# Altium schematic symbol library CPU.SchLib: 6 symbols
Pins are listed as number, name and electrical type; pins without a type are passive.

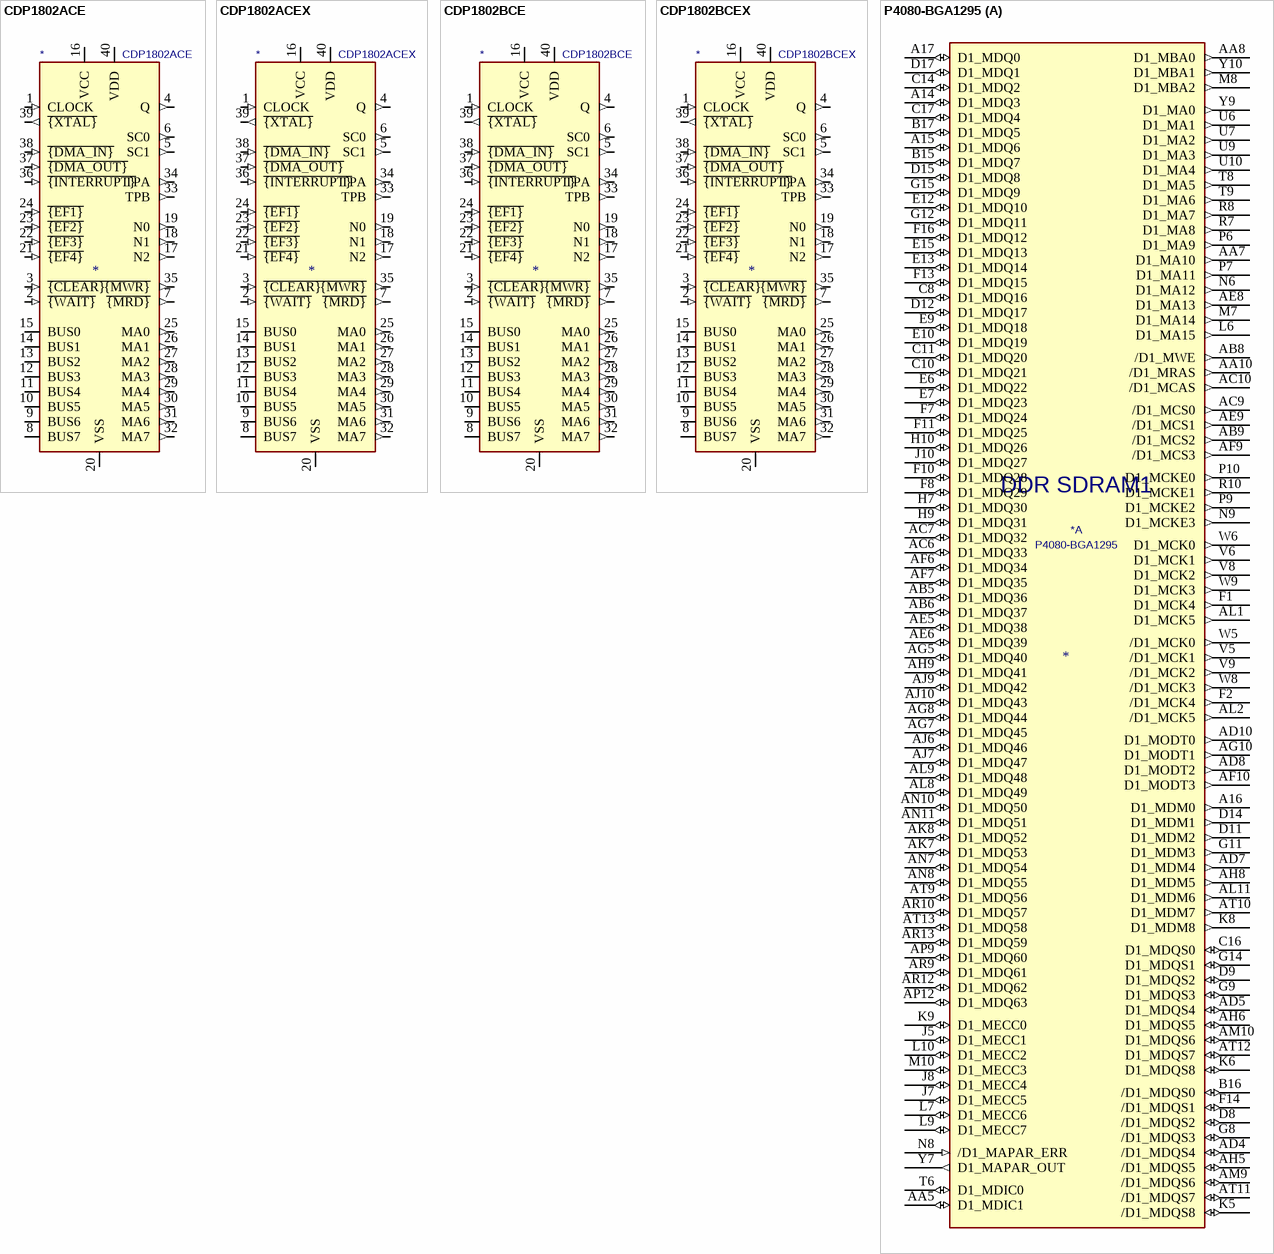
[diagram p0: symbols CDP1802ACE to P4080-BGA1295]

## CDP1802ACE
designator *  value CDP1802ACE
ki_keywords: CPU Processor; ki_description: 8-bit, General Purpose, 5V, 3.2 MHz, DIP-40; ki_fp_filters: DIP*W15.24mm*; Footprint: Package_DIP:DIP-40_W15.24mm; Supplier: http://www.cosmacelf.com/publications/data-sheets/cdp1802.pdf
footprint DIP-40_W15.24mm
pins: 1 CLOCK (in), 2 ~{{WAIT}} (in), 3 ~{{CLEAR}} (in), 4 Q (out), 5 SC1 (out), 6 SC0 (out), 7 ~{{MRD}} (out), 8 BUS7 (io), 9 BUS6 (io), 10 BUS5 (io), 11 BUS4 (io), 12 BUS3 (io), 13 BUS2 (io), 14 BUS1 (io), 15 BUS0 (io), 16 VCC (power), 17 N2 (out), 18 N1 (out), 19 N0 (out), 20 VSS (power), 21 ~{{EF4}} (in), 22 ~{{EF3}} (in), 23 ~{{EF2}} (in), 24 ~{{EF1}} (in), 25 MA0 (out), 26 MA1 (out), 27 MA2 (out), 28 MA3 (out), 29 MA4 (out), 30 MA5 (out), 31 MA6 (out), 32 MA7 (out), 33 TPB (out), 34 TPA (out), 35 ~{{MWR}} (out), 36 ~{{INTERRUPT}} (in), 37 ~{{DMA_OUT}} (in), 38 ~{{DMA_IN}} (in), 39 ~{{XTAL}} (out), 40 VDD (power)

## CDP1802ACEX
designator *  value CDP1802ACEX
ki_keywords: CPU Processor; ki_description: 8-bit, General Purpose, 5V, 3.2 MHz, Burned-In, DIP-40; ki_fp_filters: DIP*W15.24mm*; Footprint: Package_DIP:DIP-40_W15.24mm; Supplier: http://www.cosmacelf.com/publications/data-sheets/cdp1802.pdf
footprint DIP-40_W15.24mm
pins: 1 CLOCK (in), 2 ~{{WAIT}} (in), 3 ~{{CLEAR}} (in), 4 Q (out), 5 SC1 (out), 6 SC0 (out), 7 ~{{MRD}} (out), 8 BUS7 (io), 9 BUS6 (io), 10 BUS5 (io), 11 BUS4 (io), 12 BUS3 (io), 13 BUS2 (io), 14 BUS1 (io), 15 BUS0 (io), 16 VCC (power), 17 N2 (out), 18 N1 (out), 19 N0 (out), 20 VSS (power), 21 ~{{EF4}} (in), 22 ~{{EF3}} (in), 23 ~{{EF2}} (in), 24 ~{{EF1}} (in), 25 MA0 (out), 26 MA1 (out), 27 MA2 (out), 28 MA3 (out), 29 MA4 (out), 30 MA5 (out), 31 MA6 (out), 32 MA7 (out), 33 TPB (out), 34 TPA (out), 35 ~{{MWR}} (out), 36 ~{{INTERRUPT}} (in), 37 ~{{DMA_OUT}} (in), 38 ~{{DMA_IN}} (in), 39 ~{{XTAL}} (out), 40 VDD (power)

## CDP1802BCE
designator *  value CDP1802BCE
ki_keywords: CPU Processor; ki_description: 8-bit, General Purpose, 5V, 5 MHz, DIP-40; ki_fp_filters: DIP*W15.24mm*; Footprint: Package_DIP:DIP-40_W15.24mm; Supplier: http://www.cosmacelf.com/publications/data-sheets/cdp1802.pdf
footprint DIP-40_W15.24mm
pins: 1 CLOCK (in), 2 ~{{WAIT}} (in), 3 ~{{CLEAR}} (in), 4 Q (out), 5 SC1 (out), 6 SC0 (out), 7 ~{{MRD}} (out), 8 BUS7 (io), 9 BUS6 (io), 10 BUS5 (io), 11 BUS4 (io), 12 BUS3 (io), 13 BUS2 (io), 14 BUS1 (io), 15 BUS0 (io), 16 VCC (power), 17 N2 (out), 18 N1 (out), 19 N0 (out), 20 VSS (power), 21 ~{{EF4}} (in), 22 ~{{EF3}} (in), 23 ~{{EF2}} (in), 24 ~{{EF1}} (in), 25 MA0 (out), 26 MA1 (out), 27 MA2 (out), 28 MA3 (out), 29 MA4 (out), 30 MA5 (out), 31 MA6 (out), 32 MA7 (out), 33 TPB (out), 34 TPA (out), 35 ~{{MWR}} (out), 36 ~{{INTERRUPT}} (in), 37 ~{{DMA_OUT}} (in), 38 ~{{DMA_IN}} (in), 39 ~{{XTAL}} (out), 40 VDD (power)

## CDP1802BCEX
designator *  value CDP1802BCEX
ki_keywords: CPU Processor; ki_description: 8-bit, General Purpose, 5V, 5 MHz, Burned-In, DIP-40; ki_fp_filters: DIP*W15.24mm*; Footprint: Package_DIP:DIP-40_W15.24mm; Supplier: http://www.cosmacelf.com/publications/data-sheets/cdp1802.pdf
footprint DIP-40_W15.24mm
pins: 1 CLOCK (in), 2 ~{{WAIT}} (in), 3 ~{{CLEAR}} (in), 4 Q (out), 5 SC1 (out), 6 SC0 (out), 7 ~{{MRD}} (out), 8 BUS7 (io), 9 BUS6 (io), 10 BUS5 (io), 11 BUS4 (io), 12 BUS3 (io), 13 BUS2 (io), 14 BUS1 (io), 15 BUS0 (io), 16 VCC (power), 17 N2 (out), 18 N1 (out), 19 N0 (out), 20 VSS (power), 21 ~{{EF4}} (in), 22 ~{{EF3}} (in), 23 ~{{EF2}} (in), 24 ~{{EF1}} (in), 25 MA0 (out), 26 MA1 (out), 27 MA2 (out), 28 MA3 (out), 29 MA4 (out), 30 MA5 (out), 31 MA6 (out), 32 MA7 (out), 33 TPB (out), 34 TPA (out), 35 ~{{MWR}} (out), 36 ~{{INTERRUPT}} (in), 37 ~{{DMA_OUT}} (in), 38 ~{{DMA_IN}} (in), 39 ~{{XTAL}} (out), 40 VDD (power)

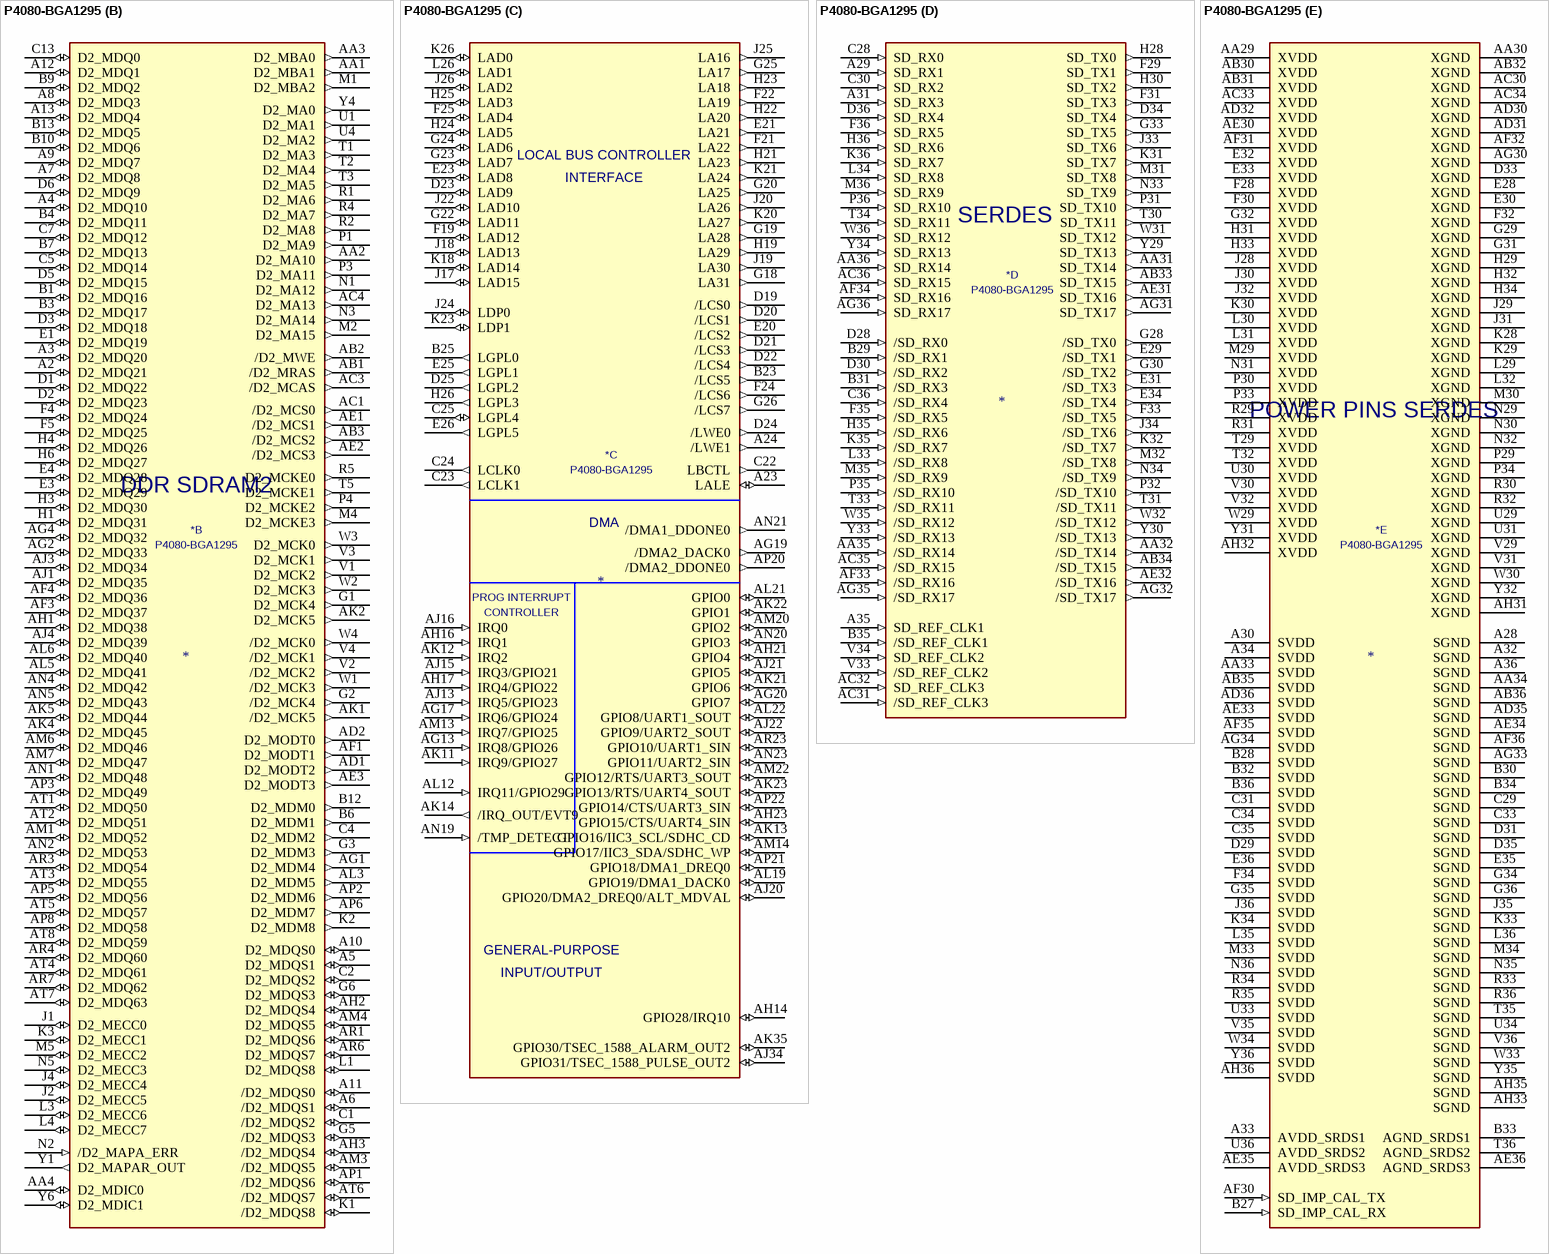
[diagram p1: symbol P4080-BGA1295]

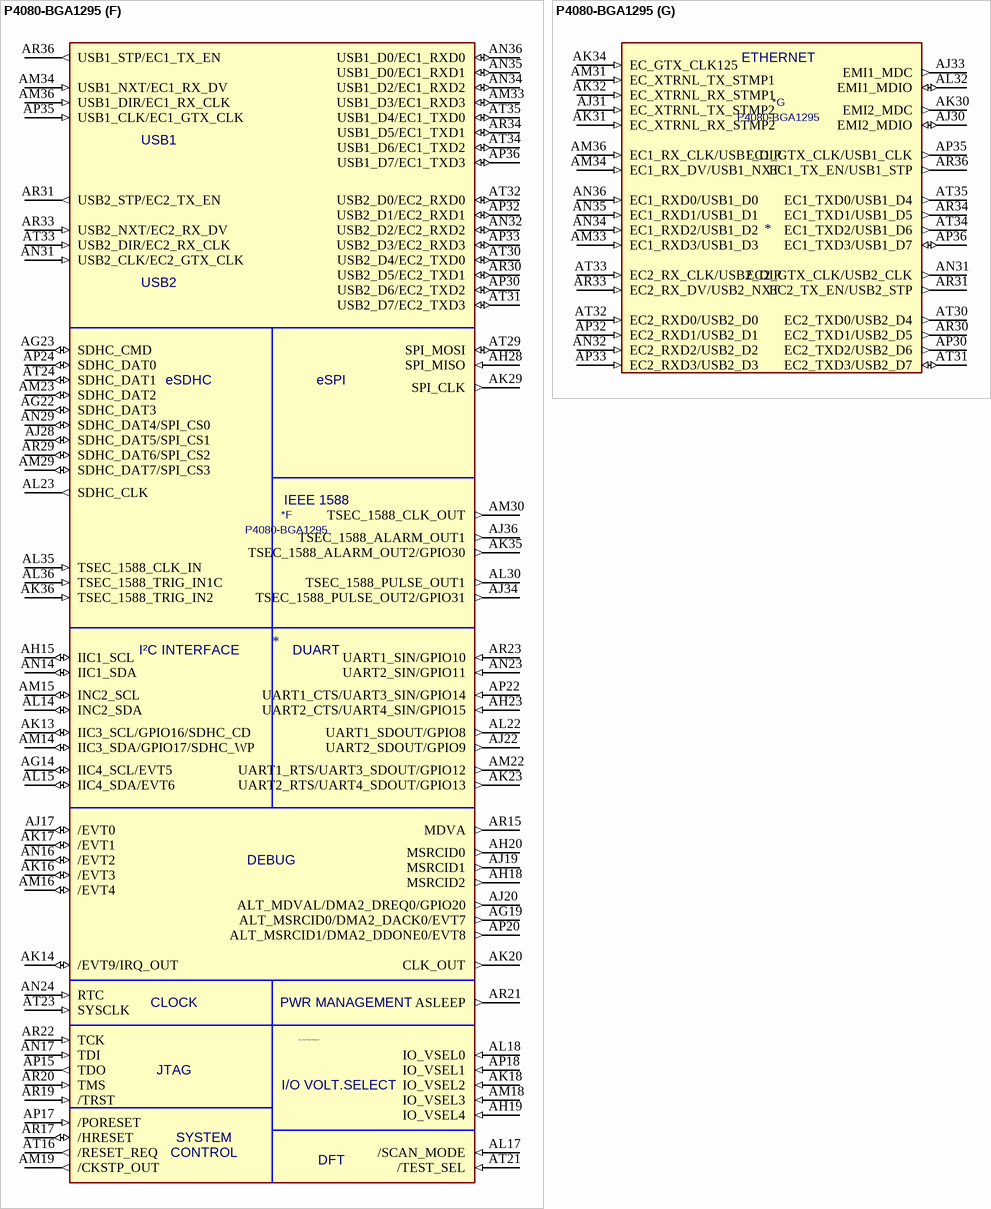
[diagram p2: symbol P4080-BGA1295]

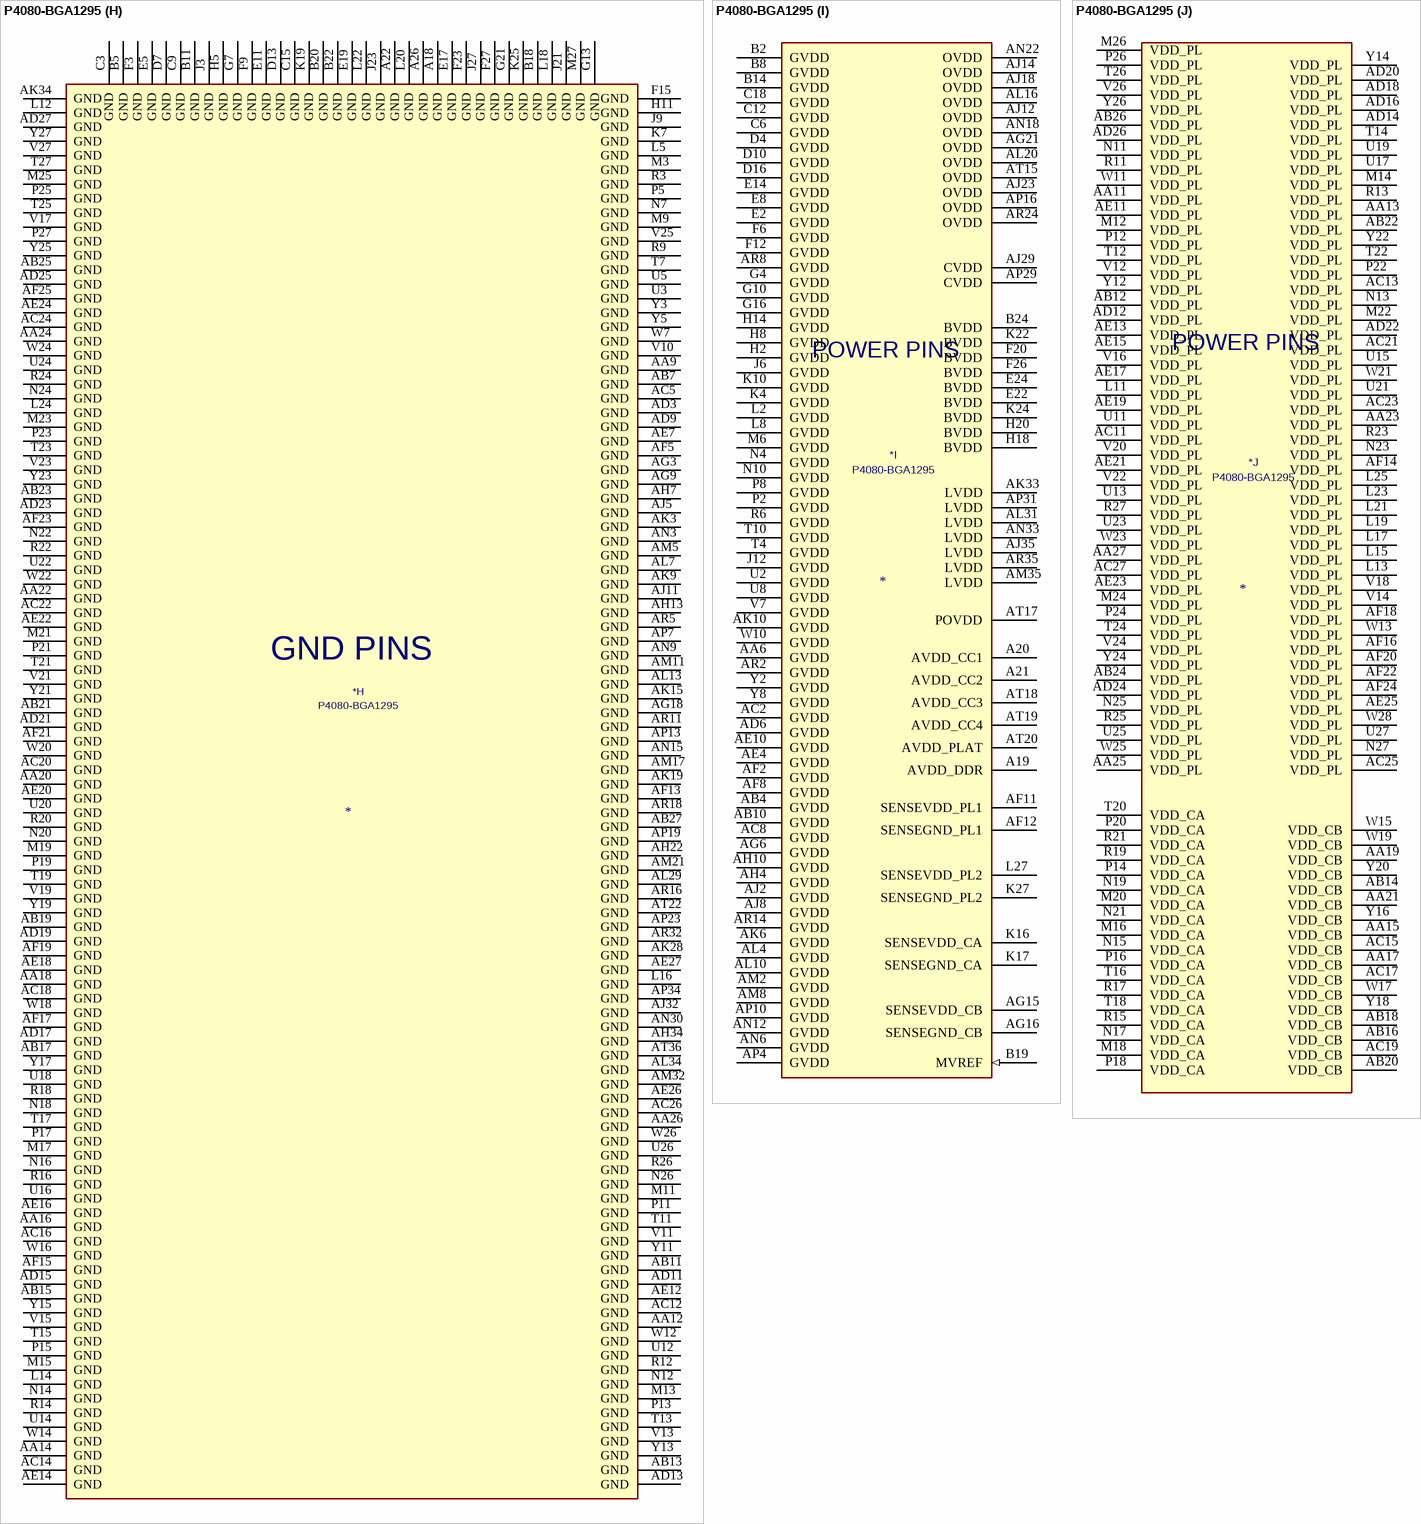
[diagram p3: symbol P4080-BGA1295]

## P4080-BGA1295
designator *  value P4080-BGA1295
ki_keywords: Communications Processor; ki_description: QorIQ P4080 Communications Processor, BGA-1295; Supplier: https://www.nxp.com/jp/products/microcontrollers-and-processors/power-architecture-processors/qoriq-platforms/p-series/qoriq-p4080-p4040-p4081-multicore-communications-processors:P4080?&tab=Documentation_Tab&linkline=Data-Sheet
part A pins: A14 D1_MDQ3 (io), A15 D1_MDQ6 (io), A16 D1_MDM0 (out), A17 D1_MDQ0 (io), AA5 D1_MDIC1 (io), AA7 D1_MA10 (out), AA8 D1_MBA0 (out), AA10 /D1_MRAS (out), AB5 D1_MDQ36 (io), AB6 D1_MDQ37 (io), AB8 /D1_MWE (out), AB9 /D1_MCS2 (out), AC6 D1_MDQ33 (io), AC7 D1_MDQ32 (io), AC9 /D1_MCS0 (out), AC10 /D1_MCAS (out), AD4 /D1_MDQS4 (io), AD5 D1_MDQS4 (io), AD7 D1_MDM4 (out), AD8 D1_MODT2 (out), AD10 D1_MODT0 (out), AE5 D1_MDQ38 (io), AE6 D1_MDQ39 (io), AE8 D1_MA13 (out), AE9 /D1_MCS1 (out), AF6 D1_MDQ34 (io), AF7 D1_MDQ35 (io), AF9 /D1_MCS3 (out), AF10 D1_MODT3 (out), AG5 D1_MDQ40 (io), AG7 D1_MDQ45 (io), AG8 D1_MDQ44 (io), AG10 D1_MODT1 (out), AH5 /D1_MDQS5 (io), AH6 D1_MDQS5 (io), AH8 D1_MDM5 (out), AH9 D1_MDQ41 (io), AJ6 D1_MDQ46 (io), AJ7 D1_MDQ47 (io), AJ9 D1_MDQ42 (io), AJ10 D1_MDQ43 (io), AK7 D1_MDQ53 (io), AK8 D1_MDQ52 (io), AL1 D1_MCK5 (out), AL2 /D1_MCK5 (out), AL8 D1_MDQ49 (io), AL9 D1_MDQ48 (io), AL11 D1_MDM6 (out), AM9 /D1_MDQS6 (io), AM10 D1_MDQS6 (io), AN7 D1_MDQ54 (io), AN8 D1_MDQ55 (io), AN10 D1_MDQ50 (io), AN11 D1_MDQ51 (io), AP9 D1_MDQ60 (io), AP12 D1_MDQ63 (io), AR9 D1_MDQ61 (io), AR10 D1_MDQ57 (io), AR12 D1_MDQ62 (io), AR13 D1_MDQ59 (io), AT9 D1_MDQ56 (io), AT10 D1_MDM7 (out), AT11 /D1_MDQS7 (io), AT12 D1_MDQS7 (io), AT13 D1_MDQ58 (io), B15 D1_MDQ7 (io), B16 /D1_MDQS0 (io), B17 D1_MDQ5 (io), C8 D1_MDQ16 (io), C10 D1_MDQ21 (io), C11 D1_MDQ20 (io), C14 D1_MDQ2 (io), C16 D1_MDQS0 (io), C17 D1_MDQ4 (io), D8 /D1_MDQS2 (io), D9 D1_MDQS2 (io), D11 D1_MDM2 (out), D12 D1_MDQ17 (io), D14 D1_MDM1 (out), D15 D1_MDQ8 (io), D17 D1_MDQ1 (io), E6 D1_MDQ22 (io), E7 D1_MDQ23 (io), E9 D1_MDQ18 (io), E10 D1_MDQ19 (io), E12 D1_MDQ10 (io), E13 D1_MDQ14 (io), E15 D1_MDQ13 (io), F1 D1_MCK4 (out), F2 /D1_MCK4 (out), F7 D1_MDQ24 (io), F8 D1_MDQ29 (io), F10 D1_MDQ28 (io), F11 D1_MDQ25 (io), F13 D1_MDQ15 (io), F14 /D1_MDQS1 (io), F16 D1_MDQ12 (io), G8 /D1_MDQS3 (io), G9 D1_MDQS3 (io), G11 D1_MDM3 (out), G12 D1_MDQ11 (io), G14 D1_MDQS1 (io), G15 D1_MDQ9 (io), H7 D1_MDQ30 (io), H9 D1_MDQ31 (io), H10 D1_MDQ26 (io), J5 D1_MECC1 (io), J7 D1_MECC5 (io), J8 D1_MECC4 (io), J10 D1_MDQ27 (io), K5 /D1_MDQS8 (io), K6 D1_MDQS8 (io), K8 D1_MDM8 (out), K9 D1_MECC0 (io), L6 D1_MA15 (out), L7 D1_MECC6 (io), L9 D1_MECC7 (io), L10 D1_MECC2 (io), M7 D1_MA14 (out), M8 D1_MBA2 (out), M10 D1_MECC3 (io), N6 D1_MA12 (out), N8 /D1_MAPAR_ERR (in), N9 D1_MCKE3 (out), P6 D1_MA9 (out), P7 D1_MA11 (out), P9 D1_MCKE2 (out), P10 D1_MCKE0 (out), R7 D1_MA8 (out), R8 D1_MA7 (out), R10 D1_MCKE1 (out), T6 D1_MDIC0 (io), T8 D1_MA5 (out), T9 D1_MA6 (out), U6 D1_MA1 (out), U7 D1_MA2 (out), U9 D1_MA3 (out), U10 D1_MA4 (out), V5 /D1_MCK1 (out), V6 D1_MCK1 (out), V8 D1_MCK2 (out), V9 /D1_MCK2 (out), W5 /D1_MCK0 (out), W6 D1_MCK0 (out), W8 /D1_MCK3 (out), W9 D1_MCK3 (out), Y7 D1_MAPAR_OUT (out), Y9 D1_MA0 (out), Y10 D1_MBA1 (out)
part B pins: A2 D2_MDQ21 (io), A3 D2_MDQ20 (io), A4 D2_MDQ10 (io), A5 D2_MDQS1 (io), A6 /D2_MDQS1 (io), A7 D2_MDQ8 (io), A8 D2_MDQ3 (io), A9 D2_MDQ7 (io), A10 D2_MDQS0 (io), A11 /D2_MDQS0 (io), A12 D2_MDQ1 (io), A13 D2_MDQ4 (io), AA1 D2_MBA1 (out), AA2 D2_MA10 (out), AA3 D2_MBA0 (out), AA4 D2_MDIC0 (io), AB1 /D2_MRAS (out), AB2 /D2_MWE (out), AB3 /D2_MCS2 (out), AC1 /D2_MCS0 (out), AC3 /D2_MCAS (out), AC4 D2_MA13 (out), AD1 D2_MODT2 (out), AD2 D2_MODT0 (out), AE1 /D2_MCS1 (out), AE2 /D2_MCS3 (out), AE3 D2_MODT3 (out), AF1 D2_MODT1 (out), AF3 D2_MDQ37 (io), AF4 D2_MDQ36 (io), AG1 D2_MDM4 (out), AG2 D2_MDQ33 (io), AG4 D2_MDQ32 (io), AH1 D2_MDQ38 (io), AH2 D2_MDQS4 (io), AH3 /D2_MDQS4 (io), AJ1 D2_MDQ35 (io), AJ3 D2_MDQ34 (io), AJ4 D2_MDQ39 (io), AK1 /D2_MCK5 (out), AK2 D2_MCK5 (out), AK4 D2_MDQ45 (io), AK5 D2_MDQ44 (io), AL3 D2_MDM5 (out), AL5 D2_MDQ41 (io), AL6 D2_MDQ40 (io), AM1 D2_MDQ52 (io), AM3 /D2_MDQS5 (io), AM4 D2_MDQS5 (io), AM6 D2_MDQ46 (io), AM7 D2_MDQ47 (io), AN1 D2_MDQ48 (io), AN2 D2_MDQ53 (io), AN4 D2_MDQ42 (io), AN5 D2_MDQ43 (io), AP1 /D2_MDQS6 (io), AP2 D2_MDM6 (out), AP3 D2_MDQ49 (io), AP5 D2_MDQ56 (io), AP6 D2_MDM7 (out), AP8 D2_MDQ58 (io), AR1 D2_MDQS6 (io), AR3 D2_MDQ54 (io), AR4 D2_MDQ60 (io), AR6 D2_MDQS7 (io), AR7 D2_MDQ62 (io), AT1 D2_MDQ50 (io), AT2 D2_MDQ51 (io), AT3 D2_MDQ55 (io), AT4 D2_MDQ61 (io), AT5 D2_MDQ57 (io), AT6 /D2_MDQS7 (io), AT7 D2_MDQ63 (io), AT8 D2_MDQ59 (io), B1 D2_MDQ16 (io), B3 D2_MDQ17 (io), B4 D2_MDQ11 (io), B6 D2_MDM1 (out), B7 D2_MDQ13 (io), B9 D2_MDQ2 (io), B10 D2_MDQ6 (io), B12 D2_MDM0 (out), B13 D2_MDQ5 (io), C1 /D2_MDQS2 (io), C2 D2_MDQS2 (io), C4 D2_MDM2 (out), C5 D2_MDQ14 (io), C7 D2_MDQ12 (io), C13 D2_MDQ0 (io), D1 D2_MDQ22 (io), D2 D2_MDQ23 (io), D3 D2_MDQ18 (io), D5 D2_MDQ15 (io), D6 D2_MDQ9 (io), E1 D2_MDQ19 (io), E3 D2_MDQ29 (io), E4 D2_MDQ28 (io), F4 D2_MDQ24 (io), F5 D2_MDQ25 (io), G1 D2_MCK4 (out), G2 /D2_MCK4 (out), G3 D2_MDM3 (out), G5 /D2_MDQS3 (io), G6 D2_MDQS3 (io), H1 D2_MDQ31 (io), H3 D2_MDQ30 (io), H4 D2_MDQ26 (io), H6 D2_MDQ27 (io), J1 D2_MECC0 (io), J2 D2_MECC5 (io), J4 D2_MECC4 (io), K1 /D2_MDQS8 (io), K2 D2_MDM8 (out), K3 D2_MECC1 (io), L1 D2_MDQS8 (io), L3 D2_MECC6 (io), L4 D2_MECC7 (io), M1 D2_MBA2 (out), M2 D2_MA15 (out), M4 D2_MCKE3 (out), M5 D2_MECC2 (io), N1 D2_MA12 (out), N2 /D2_MAPA_ERR (in), N3 D2_MA14 (out), N5 D2_MECC3 (io), P1 D2_MA9 (out), P3 D2_MA11 (out), P4 D2_MCKE2 (out), R1 D2_MA6 (out), R2 D2_MA8 (out), R4 D2_MA7 (out), R5 D2_MCKE0 (out), T1 D2_MA3 (out), T2 D2_MA4 (out), T3 D2_MA5 (out), T5 D2_MCKE1 (out), U1 D2_MA1 (out), U4 D2_MA2 (out), V1 D2_MCK2 (out), V2 /D2_MCK2 (out), V3 D2_MCK1 (out), V4 /D2_MCK1 (out), W1 /D2_MCK3 (out), W2 D2_MCK3 (out), W3 D2_MCK0 (out), W4 /D2_MCK0 (out), Y1 D2_MAPAR_OUT (out), Y4 D2_MA0 (out), Y6 D2_MDIC1 (io)
part C pins: A23 LALE (io), A24 /LWE1 (out), AG13 IRQ8/GPIO26 (in), AG17 IRQ6/GPIO24 (in), AG19 /DMA2_DACK0 (out), AG20 GPIO7 (io), AH14 GPIO28/IRQ10 (io), AH16 IRQ1 (in), AH17 IRQ4/GPIO22 (in), AH21 GPIO4 (io), AH23 GPIO15/CTS/UART4_SIN (io), AJ13 IRQ5/GPIO23 (in), AJ15 IRQ3/GPIO21 (in), AJ16 IRQ0 (in), AJ20 GPIO20/DMA2_DREQ0/ALT_MDVAL (io), AJ21 GPIO5 (io), AJ22 GPIO9/UART2_SOUT (io), AJ34 GPIO31/TSEC_1588_PULSE_OUT2 (io), AK11 IRQ9/GPIO27 (in), AK12 IRQ2 (in), AK13 GPIO16/IIC3_SCL/SDHC_CD (io), AK14 /IRQ_OUT/EVT9 (out), AK21 GPIO6 (io), AK22 GPIO1 (io), AK23 GPIO13/RTS/UART4_SOUT (io), AK35 GPIO30/TSEC_1588_ALARM_OUT2 (io), AL12 IRQ11/GPIO29 (in), AL19 GPIO19/DMA1_DACK0 (io), AL21 GPIO0 (io), AL22 GPIO8/UART1_SOUT (io), AM13 IRQ7/GPIO25 (in), AM14 GPIO17/IIC3_SDA/SDHC_WP (io), AM20 GPIO2 (io), AM22 GPIO12/RTS/UART3_SOUT (io), AN19 /TMP_DETECT (in), AN20 GPIO3 (io), AN21 /DMA1_DDONE0 (out), AN23 GPIO11/UART2_SIN (io), AP20 /DMA2_DDONE0 (out), AP21 GPIO18/DMA1_DREQ0 (io), AP22 GPIO14/CTS/UART3_SIN (io), AR23 GPIO10/UART1_SIN (io), B23 /LCS5 (out), B25 LGPL0 (out), C22 LBCTL (out), C23 LCLK1 (out), C24 LCLK0 (out), C25 LGPL4 (io), D19 /LCS0 (out), D20 /LCS1 (out), D21 /LCS3 (out), D22 /LCS4 (out), D23 LAD9 (io), D24 /LWE0 (out), D25 LGPL2 (out), E20 /LCS2 (out), E21 LA21 (out), E23 LAD8 (io), E25 LGPL1 (out), E26 LGPL5 (out), F19 LAD12 (io), F21 LA22 (out), F22 LA19 (out), F24 /LCS6 (out), F25 LAD4 (io), G18 LA31 (out), G19 LA28 (out), G20 LA25 (out), G22 LAD11 (io), G23 LAD7 (io), G24 LAD6 (io), G25 LA17 (out), G26 /LCS7 (out), H19 LA29 (out), H21 LA23 (out), H22 LA20 (out), H23 LA18 (out), H24 LAD5 (io), H25 LAD3 (io), H26 LGPL3 (out), J17 LAD15 (io), J18 LAD13 (io), J19 LA30 (out), J20 LA26 (out), J22 LAD10 (io), J24 LDP0 (io), J25 LA16 (out), J26 LAD2 (io), K18 LAD14 (io), K20 LA27 (out), K21 LA24 (out), K23 LDP1 (io), K26 LAD0 (io), L26 LAD1 (io)
part D pins: A29 SD_RX1 (in), A31 SD_RX3 (in), A35 SD_REF_CLK1 (in), AA31 SD_TX14 (out), AA32 /SD_TX14 (out), AA35 /SD_RX14 (in), AA36 SD_RX14 (in), AB33 SD_TX15 (out), AB34 /SD_TX15 (out), AC31 /SD_REF_CLK3 (in), AC32 SD_REF_CLK3 (in), AC35 /SD_RX15 (in), AC36 SD_RX15 (in), AE31 SD_TX16 (out), AE32 /SD_TX16 (out), AF33 /SD_RX16 (in), AF34 SD_RX16 (in), AG31 SD_TX17 (out), AG32 /SD_TX17 (out), AG35 /SD_RX17 (in), AG36 SD_RX17 (in), B29 /SD_RX1 (in), B31 /SD_RX3 (in), B35 /SD_REF_CLK1 (in), C28 SD_RX0 (in), C30 SD_RX2 (in), C36 /SD_RX4 (in), D28 /SD_RX0 (in), D30 /SD_RX2 (in), D34 SD_TX4 (out), D36 SD_RX4 (in), E29 /SD_TX1 (out), E31 /SD_TX3 (out), E34 /SD_TX4 (out), F29 SD_TX1 (out), F31 SD_TX3 (out), F33 /SD_TX5 (out), F35 /SD_RX5 (in), F36 SD_RX5 (in), G28 /SD_TX0 (out), G30 /SD_TX2 (out), G33 SD_TX5 (out), H28 SD_TX0 (out), H30 SD_TX2 (out), H35 /SD_RX6 (in), H36 SD_RX6 (in), J33 SD_TX6 (out), J34 /SD_TX6 (out), K31 SD_TX7 (out), K32 /SD_TX7 (out), K35 /SD_RX7 (in), K36 SD_RX7 (in), L33 /SD_RX8 (in), L34 SD_RX8 (in), M31 SD_TX8 (out), M32 /SD_TX8 (out), M35 /SD_RX9 (in), M36 SD_RX9 (in), N33 SD_TX9 (out), N34 /SD_TX9 (out), P31 SD_TX10 (out), P32 /SD_TX10 (out), P35 /SD_RX10 (in), P36 SD_RX10 (in), T30 SD_TX11 (out), T31 /SD_TX11 (out), T33 /SD_RX11 (in), T34 SD_RX11 (in), V33 /SD_REF_CLK2 (in), V34 SD_REF_CLK2 (in), W31 SD_TX12 (out), W32 /SD_TX12 (out), W35 /SD_RX12 (in), W36 SD_RX12 (in), Y29 SD_TX13 (out), Y30 /SD_TX13 (out), Y33 /SD_RX13 (in), Y34 SD_RX13 (in)
part E pins: A28 SGND (power), A30 SVDD (power), A32 SGND (power), A33 AVDD_SRDS1 (power), A34 SVDD (power), A36 SGND (power), AA29 XVDD (power), AA30 XGND (power), AA33 SVDD (power), AA34 SGND (power), AB30 XVDD (power), AB31 XVDD (power), AB32 XGND (power), AB35 SVDD (power), AB36 SGND (power), AC30 XGND (power), AC33 XVDD (power), AC34 XGND (power), AD30 XGND (power), AD31 XGND (power), AD32 XVDD (power), AD35 SGND (power), AD36 SVDD (power), AE30 XVDD (power), AE33 SVDD (power), AE34 SGND (power), AE35 AVDD_SRDS3 (power), AE36 AGND_SRDS3 (power), AF30 SD_IMP_CAL_TX (in), AF31 XVDD (power), AF32 XGND (power), AF35 SVDD (power), AF36 SGND (power), AG30 XGND (power), AG33 SGND (power), AG34 SVDD (power), AH31 XGND (power), AH32 XVDD (power), AH33 SGND (power), AH35 SGND (power), AH36 SVDD (power), B27 SD_IMP_CAL_RX (in), B28 SVDD (power), B30 SGND (power), B32 SVDD (power), B33 AGND_SRDS1 (power), B34 SGND (power), B36 SVDD (power), C29 SGND (power), C31 SVDD (power), C33 SGND (power), C34 SVDD (power), C35 SVDD (power), D29 SVDD (power), D31 SGND (power), D33 XGND (power), D35 SGND (power), E28 XGND (power), E30 XGND (power), E32 XVDD (power), E33 XVDD (power), E35 SGND (power), E36 SVDD (power), F28 XVDD (power), F30 XVDD (power), F32 XGND (power), F34 SVDD (power), G29 XGND (power), G31 XGND (power), G32 XVDD (power), G34 SGND (power), G35 SVDD (power), G36 SGND (power), H29 XGND (power), H31 XVDD (power), H32 XGND (power), H33 XVDD (power), H34 XGND (power), J28 XVDD (power), J29 XGND (power), J30 XVDD (power), J31 XGND (power), J32 XVDD (power), J35 SGND (power), J36 SVDD (power), K28 XGND (power), K29 XGND (power), K30 XVDD (power), K33 SGND (power), K34 SVDD (power), L29 XGND (power), L30 XVDD (power), L31 XVDD (power), L32 XGND (power), L35 SVDD (power), L36 SGND (power), M29 XVDD (power), M30 XGND (power), M33 SVDD (power), M34 SGND (power), N29 XGND (power), N30 XGND (power), N31 XVDD (power), N32 XGND (power), N35 SGND (power), N36 SVDD (power), P29 XGND (power), P30 XVDD (power), P33 XVDD (power), P34 XGND (power), R29 XVDD (power), R30 XGND (power), R31 XVDD (power), R32 XGND (power), R33 SGND (power), R34 SVDD (power), R35 SVDD (power), R36 SGND (power), T29 XVDD (power), T32 XVDD (power), T35 SGND (power), T36 AGND_SRDS2 (power), U29 XGND (power), U30 XVDD (power), U31 XGND (power), U33 SVDD (power), U34 SGND (power), U36 AVDD_SRDS2 (power), V29 XGND (power), V30 XVDD (power), V31 XGND (power), V32 XVDD (power), V35 SVDD (power), V36 SGND (power), W29 XVDD (power), W30 XGND (power), W33 SGND (power), W34 SVDD (power), Y31 XVDD (power), Y32 XGND (power), Y35 SGND (power), Y36 SVDD (power)
part F pins: AG14 IIC4_SCL/EVT5 (io), AG19 ALT_MSRCID0/DMA2_DACK0/EVT7 (out), AG22 SDHC_DAT3 (io), AG23 SDHC_CMD (io), AH15 IIC1_SCL (io), AH18 MSRCID2 (out), AH19 IO_VSEL4 (in), AH20 MSRCID0 (out), AH23 UART2_CTS/UART4_SIN/GPIO15 (in), AH28 SPI_MISO (in), AJ17 /EVT0 (io), AJ19 MSRCID1 (out), AJ20 ALT_MDVAL/DMA2_DREQ0/GPIO20 (out), AJ22 UART2_SDOUT/GPIO9 (out), AJ28 SDHC_DAT5/SPI_CS1 (io), AJ34 TSEC_1588_PULSE_OUT2/GPIO31 (out), AJ36 TSEC_1588_ALARM_OUT1 (out), AK13 IIC3_SCL/GPIO16/SDHC_CD (io), AK14 /EVT9/IRQ_OUT (io), AK16 /EVT3 (io), AK17 /EVT1 (io), AK18 IO_VSEL2 (in), AK20 CLK_OUT (out), AK23 UART2_RTS/UART4_SDOUT/GPIO13 (out), AK29 SPI_CLK (out), AK35 TSEC_1588_ALARM_OUT2/GPIO30 (out), AK36 TSEC_1588_TRIG_IN2 (in), AL14 INC2_SDA (io), AL15 IIC4_SDA/EVT6 (io), AL17 /SCAN_MODE (in), AL18 IO_VSEL0 (in), AL22 UART1_SDOUT/GPIO8 (out), AL23 SDHC_CLK (out), AL30 TSEC_1588_PULSE_OUT1 (out), AL35 TSEC_1588_CLK_IN (in), AL36 TSEC_1588_TRIG_IN1C (in), AM14 IIC3_SDA/GPIO17/SDHC_WP (io), AM15 INC2_SCL (io), AM16 /EVT4 (io), AM18 IO_VSEL3 (in), AM19 /CKSTP_OUT (out), AM22 UART1_RTS/UART3_SDOUT/GPIO12 (out), AM23 SDHC_DAT2 (io), AM29 SDHC_DAT7/SPI_CS3 (io), AM30 TSEC_1588_CLK_OUT (out), AM33 USB1_D3/EC1_RXD3 (io), AM34 USB1_NXT/EC1_RX_DV (in), AM36 USB1_DIR/EC1_RX_CLK (in), AN14 IIC1_SDA (io), AN16 /EVT2 (io), AN17 TDI (in), AN23 UART2_SIN/GPIO11 (in), AN24 RTC (in), AN29 SDHC_DAT4/SPI_CS0 (io), AN31 USB2_CLK/EC2_GTX_CLK (in), AN32 USB2_D2/EC2_RXD2 (io), AN34 USB1_D2/EC1_RXD2 (io), AN35 USB1_D0/EC1_RXD1 (io), AN36 USB1_D0/EC1_RXD0 (io), AP15 TDO (out), AP17 /PORESET (in), AP18 IO_VSEL1 (in), AP20 ALT_MSRCID1/DMA2_DDONE0/EVT8 (out), AP22 UART1_CTS/UART3_SIN/GPIO14 (in), AP24 SDHC_DAT0 (io), AP30 USB2_D6/EC2_TXD2 (io), AP32 USB2_D1/EC2_RXD1 (io), AP33 USB2_D3/EC2_RXD3 (io), AP35 USB1_CLK/EC1_GTX_CLK (in), AP36 USB1_D7/EC1_TXD3 (io), AR15 MDVA (out), AR17 /HRESET (io), AR19 /TRST (in), AR20 TMS (in), AR21 ASLEEP (out), AR22 TCK (in), AR23 UART1_SIN/GPIO10 (in), AR29 SDHC_DAT6/SPI_CS2 (io), AR30 USB2_D5/EC2_TXD1 (io), AR31 USB2_STP/EC2_TX_EN (out), AR33 USB2_NXT/EC2_RX_DV (in), AR34 USB1_D5/EC1_TXD1 (io), AR36 USB1_STP/EC1_TX_EN (out), AT16 /RESET_REQ (out), AT21 /TEST_SEL (in), AT23 SYSCLK (in), AT24 SDHC_DAT1 (io), AT29 SPI_MOSI (io), AT30 USB2_D4/EC2_TXD0 (io), AT31 USB2_D7/EC2_TXD3 (io), AT32 USB2_D0/EC2_RXD0 (io), AT33 USB2_DIR/EC2_RX_CLK (in), AT34 USB1_D6/EC1_TXD2 (io), AT35 USB1_D4/EC1_TXD0 (io)
part G pins: AJ30 EMI2_MDIO (io), AJ31 EC_XTRNL_TX_STMP2 (in), AJ33 EMI1_MDC (out), AK30 EMI2_MDC (out), AK31 EC_XTRNL_RX_STMP2 (in), AK32 EC_XTRNL_RX_STMP1 (in), AK34 EC_GTX_CLK125 (in), AL32 EMI1_MDIO (io), AM31 EC_XTRNL_TX_STMP1 (in), AM33 EC1_RXD3/USB1_D3 (in), AM34 EC1_RX_DV/USB1_NXT (in), AM36 EC1_RX_CLK/USB1_DIR (in), AN31 EC2_GTX_CLK/USB2_CLK (out), AN32 EC2_RXD2/USB2_D2 (in), AN34 EC1_RXD2/USB1_D2 (in), AN35 EC1_RXD1/USB1_D1 (in), AN36 EC1_RXD0/USB1_D0 (in), AP30 EC2_TXD2/USB2_D6 (out), AP32 EC2_RXD1/USB2_D1 (in), AP33 EC2_RXD3/USB2_D3 (in), AP35 EC1_GTX_CLK/USB1_CLK (out), AP36 EC1_TXD3/USB1_D7 (io), AR30 EC2_TXD1/USB2_D5 (out), AR31 EC2_TX_EN/USB2_STP (out), AR33 EC2_RX_DV/USB2_NXT (in), AR34 EC1_TXD1/USB1_D5 (out), AR36 EC1_TX_EN/USB1_STP (out), AT30 EC2_TXD0/USB2_D4 (out), AT31 EC2_TXD3/USB2_D7 (io), AT32 EC2_RXD0/USB2_D0 (in), AT33 EC2_RX_CLK/USB2_DIR (in), AT34 EC1_TXD2/USB1_D6 (out), AT35 EC1_TXD0/USB1_D4 (out)
part H pins: A18 GND (power), A22 GND (power), A26 GND (power), AA9 GND (power), AA12 GND (power), AA14 GND (power), AA16 GND (power), AA18 GND (power), AA20 GND (power), AA22 GND (power), AA24 GND (power), AA26 GND (power), AB7 GND (power), AB11 GND (power), AB13 GND (power), AB15 GND (power), AB17 GND (power), AB19 GND (power), AB21 GND (power), AB23 GND (power), AB25 GND (power), AB27 GND (power), AC5 GND (power), AC12 GND (power), AC14 GND (power), AC16 GND (power), AC18 GND (power), AC20 GND (power), AC22 GND (power), AC24 GND (power), AC26 GND (power), AD3 GND (power), AD9 GND (power), AD11 GND (power), AD13 GND (power), AD15 GND (power), AD17 GND (power), AD19 GND (power), AD21 GND (power), AD23 GND (power), AD25 GND (power), AD27 GND (power), AE7 GND (power), AE12 GND (power), AE14 GND (power), AE16 GND (power), AE18 GND (power), AE20 GND (power), AE22 GND (power), AE24 GND (power), AE26 GND (power), AE27 GND (power), AF5 GND (power), AF13 GND (power), AF15 GND (power), AF17 GND (power), AF19 GND (power), AF21 GND (power), AF23 GND (power), AF25 GND (power), AG3 GND (power), AG9 GND (power), AG18 GND (power), AH7 GND (power), AH13 GND (power), AH22 GND (power), AH34 GND (power), AJ5 GND (power), AJ11 GND (power), AJ32 GND (power), AK3 GND (power), AK9 GND (power), AK15 GND (power), AK19 GND (power), AK28 GND (power), AK34 GND (power), AL7 GND (power), AL13 GND (power), AL29 GND (power), AL34 GND (power), AM5 GND (power), AM11 GND (power), AM17 GND (power), AM21 GND (power), AM32 GND (power), AN3 GND (power), AN9 GND (power), AN15 GND (power), AN30 GND (power), AP7 GND (power), AP13 GND (power), AP19 GND (power), AP23 GND (power), AP34 GND (power), AR5 GND (power), AR11 GND (power), AR16 GND (power), AR18 GND (power), AR32 GND (power), AT22 GND (power), AT36 GND (power), B5 GND (power), B11 GND (power), B18 GND (power), B20 GND (power), B22 GND (power), C3 GND (power), C9 GND (power), C15 GND (power), D7 GND (power), D13 GND (power), E5 GND (power), E11 GND (power), E17 GND (power), E19 GND (power), F3 GND (power), F9 GND (power), F15 GND (power), F23 GND (power), F27 GND (power), G7 GND (power), G13 GND (power), G21 GND (power), H5 GND (power), H11 GND (power), J3 GND (power), J9 GND (power), J21 GND (power), J23 GND (power), J27 GND (power), K7 GND (power), K19 GND (power), K25 GND (power), L5 GND (power), L12 GND (power), L14 GND (power), L16 GND (power), L18 GND (power), L20 GND (power), L22 GND (power), L24 GND (power), M3 GND (power), M9 GND (power), M11 GND (power), M13 GND (power), M15 GND (power), M17 GND (power), M19 GND (power), M21 GND (power), M23 GND (power), M25 GND (power), M27 GND (power), N7 GND (power), N12 GND (power), N14 GND (power), N16 GND (power), N18 GND (power), N20 GND (power), N22 GND (power), N24 GND (power), N26 GND (power), P5 GND (power), P11 GND (power), P13 GND (power), P15 GND (power), P17 GND (power), P19 GND (power), P21 GND (power), P23 GND (power), P25 GND (power), P27 GND (power), R3 GND (power), R9 GND (power), R12 GND (power), R14 GND (power), R16 GND (power), R18 GND (power), R20 GND (power), R22 GND (power), R24 GND (power), R26 GND (power), T7 GND (power), T11 GND (power), T13 GND (power), T15 GND (power), T17 GND (power), T19 GND (power), T21 GND (power), T23 GND (power), T25 GND (power), T27 GND (power), U3 GND (power), U5 GND (power), U12 GND (power), U14 GND (power), U16 GND (power), U18 GND (power), U20 GND (power), U22 GND (power), U24 GND (power), U26 GND (power), V10 GND (power), V11 GND (power), V13 GND (power), V15 GND (power), V17 GND (power), V19 GND (power), V21 GND (power), V23 GND (power), V25 GND (power), V27 GND (power), W7 GND (power), W12 GND (power), W14 GND (power), W16 GND (power), W18 GND (power), W20 GND (power), W22 GND (power), W24 GND (power), W26 GND (power), Y3 GND (power), Y5 GND (power), Y11 GND (power), Y13 GND (power), Y15 GND (power), Y17 GND (power), Y19 GND (power), Y21 GND (power), Y23 GND (power), Y25 GND (power), Y27 GND (power)
part I pins: A19 AVDD_DDR (power), A20 AVDD_CC1 (power), A21 AVDD_CC2 (power), AA6 GVDD (power), AB4 GVDD (power), AB10 GVDD (power), AC2 GVDD (power), AC8 GVDD (power), AD6 GVDD (power), AE4 GVDD (power), AE10 GVDD (power), AF2 GVDD (power), AF8 GVDD (power), AF11 SENSEVDD_PL1 (power), AF12 SENSEGND_PL1 (power), AG6 GVDD (power), AG15 SENSEVDD_CB (power), AG16 SENSEGND_CB (power), AG21 OVDD (power), AH4 GVDD (power), AH10 GVDD (power), AJ2 GVDD (power), AJ8 GVDD (power), AJ12 OVDD (power), AJ14 OVDD (power), AJ18 OVDD (power), AJ23 OVDD (power), AJ29 CVDD (power), AJ35 LVDD (power), AK6 GVDD (power), AK10 GVDD (power), AK33 LVDD (power), AL4 GVDD (power), AL10 GVDD (power), AL16 OVDD (power), AL20 OVDD (power), AL31 LVDD (power), AM2 GVDD (power), AM8 GVDD (power), AM35 LVDD (power), AN6 GVDD (power), AN12 GVDD (power), AN18 OVDD (power), AN22 OVDD (power), AN33 LVDD (power), AP4 GVDD (power), AP10 GVDD (power), AP16 OVDD (power), AP29 CVDD (power), AP31 LVDD (power), AR2 GVDD (power), AR8 GVDD (power), AR14 GVDD (power), AR24 OVDD (power), AR35 LVDD (power), AT15 OVDD (power), AT17 POVDD (power), AT18 AVDD_CC3 (power), AT19 AVDD_CC4 (power), AT20 AVDD_PLAT (power), B2 GVDD (power), B8 GVDD (power), B14 GVDD (power), B19 MVREF (in), B24 BVDD (power), C6 GVDD (power), C12 GVDD (power), C18 GVDD (power), D4 GVDD (power), D10 GVDD (power), D16 GVDD (power), E2 GVDD (power), E8 GVDD (power), E14 GVDD (power), E22 BVDD (power), E24 BVDD (power), F6 GVDD (power), F12 GVDD (power), F20 BVDD (power), F26 BVDD (power), G4 GVDD (power), G10 GVDD (power), G16 GVDD (power), H2 GVDD (power), H8 GVDD (power), H14 GVDD (power), H18 BVDD (power), H20 BVDD (power), J6 GVDD (power), J12 GVDD (power), K4 GVDD (power), K10 GVDD (power), K16 SENSEVDD_CA (power), K17 SENSEGND_CA (power), K22 BVDD (power), K24 BVDD (power), K27 SENSEGND_PL2 (power), L2 GVDD (power), L8 GVDD (power), L27 SENSEVDD_PL2 (power), M6 GVDD (power), N4 GVDD (power), N10 GVDD (power), P2 GVDD (power), P8 GVDD (power), R6 GVDD (power), T4 GVDD (power), T10 GVDD (power), U2 GVDD (power), U8 GVDD (power), V7 GVDD (power), W10 GVDD (power), Y2 GVDD (power), Y8 GVDD (power)
part J pins: AA11 VDD_PL (power), AA13 VDD_PL (power), AA15 VDD_CB (power), AA17 VDD_CB (power), AA19 VDD_CB (power), AA21 VDD_CB (power), AA23 VDD_PL (power), AA25 VDD_PL (power), AA27 VDD_PL (power), AB12 VDD_PL (power), AB14 VDD_CB (power), AB16 VDD_CB (power), AB18 VDD_CB (power), AB20 VDD_CB (power), AB22 VDD_PL (power), AB24 VDD_PL (power), AB26 VDD_PL (power), AC11 VDD_PL (power), AC13 VDD_PL (power), AC15 VDD_CB (power), AC17 VDD_CB (power), AC19 VDD_CB (power), AC21 VDD_PL (power), AC23 VDD_PL (power), AC25 VDD_PL (power), AC27 VDD_PL (power), AD12 VDD_PL (power), AD14 VDD_PL (power), AD16 VDD_PL (power), AD18 VDD_PL (power), AD20 VDD_PL (power), AD22 VDD_PL (power), AD24 VDD_PL (power), AD26 VDD_PL (power), AE11 VDD_PL (power), AE13 VDD_PL (power), AE15 VDD_PL (power), AE17 VDD_PL (power), AE19 VDD_PL (power), AE21 VDD_PL (power), AE23 VDD_PL (power), AE25 VDD_PL (power), AF14 VDD_PL (power), AF16 VDD_PL (power), AF18 VDD_PL (power), AF20 VDD_PL (power), AF22 VDD_PL (power), AF24 VDD_PL (power), L11 VDD_PL (power), L13 VDD_PL (power), L15 VDD_PL (power), L17 VDD_PL (power), L19 VDD_PL (power), L21 VDD_PL (power), L23 VDD_PL (power), L25 VDD_PL (power), M12 VDD_PL (power), M14 VDD_PL (power), M16 VDD_CA (power), M18 VDD_CA (power), M20 VDD_CA (power), M22 VDD_PL (power), M24 VDD_PL (power), M26 VDD_PL (power), N11 VDD_PL (power), N13 VDD_PL (power), N15 VDD_CA (power), N17 VDD_CA (power), N19 VDD_CA (power), N21 VDD_CA (power), N23 VDD_PL (power), N25 VDD_PL (power), N27 VDD_PL (power), P12 VDD_PL (power), P14 VDD_CA (power), P16 VDD_CA (power), P18 VDD_CA (power), P20 VDD_CA (power), P22 VDD_PL (power), P24 VDD_PL (power), P26 VDD_PL (power), R11 VDD_PL (power), R13 VDD_PL (power), R15 VDD_CA (power), R17 VDD_CA (power), R19 VDD_CA (power), R21 VDD_CA (power), R23 VDD_PL (power), R25 VDD_PL (power), R27 VDD_PL (power), T12 VDD_PL (power), T14 VDD_PL (power), T16 VDD_CA (power), T18 VDD_CA (power), T20 VDD_CA (power), T22 VDD_PL (power), T24 VDD_PL (power), T26 VDD_PL (power), U11 VDD_PL (power), U13 VDD_PL (power), U15 VDD_PL (power), U17 VDD_PL (power), U19 VDD_PL (power), U21 VDD_PL (power), U23 VDD_PL (power), U25 VDD_PL (power), U27 VDD_PL (power), V12 VDD_PL (power), V14 VDD_PL (power), V16 VDD_PL (power), V18 VDD_PL (power), V20 VDD_PL (power), V22 VDD_PL (power), V24 VDD_PL (power), V26 VDD_PL (power), W11 VDD_PL (power), W13 VDD_PL (power), W15 VDD_CB (power), W17 VDD_CB (power), W19 VDD_CB (power), W21 VDD_PL (power), W23 VDD_PL (power), W25 VDD_PL (power), W28 VDD_PL (power), Y12 VDD_PL (power), Y14 VDD_PL (power), Y16 VDD_CB (power), Y18 VDD_CB (power), Y20 VDD_CB (power), Y22 VDD_PL (power), Y24 VDD_PL (power), Y26 VDD_PL (power)
part A text: DDR SDRAM1
part B text: DDR SDRAM2
part C text: LOCAL BUS CONTROLLER; INTERFACE; DMA; PROG INTERRUPT; CONTROLLER; GENERAL-PURPOSE; INPUT/OUTPUT
part D text: SERDES
part E text: POWER PINS SERDES
part F text: USB1; USB2; eSDHC; eSPI; IEEE 1588; I²C INTERFACE; DUART; DEBUG; CLOCK; PWR MANAGEMENT; I/O VOLTAGE SELECT; JTAG; I/O VOLT.SELECT; SYSTEM; CONTROL; DFT
part G text: ETHERNET
part H text: GND PINS
part I text: POWER PINS
part J text: POWER PINS

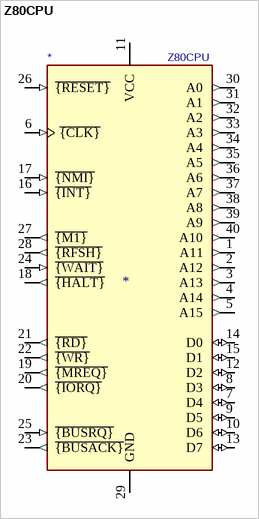
[diagram p4: symbol Z80CPU]

## Z80CPU
designator *  value Z80CPU
ki_keywords: Z80 CPU uP; ki_description: 8-bit General Purpose Microprocessor, DIP-40; ki_fp_filters: DIP* PDIP*; Supplier: www.zilog.com/manage_directlink.php?filepath=docs/z80/um0080
pins: 1 A11 (out), 2 A12 (out), 3 A13 (out), 4 A14 (out), 5 A15 (out), 6 ~{{CLK}} (in), 7 D4 (io), 8 D3 (io), 9 D5 (io), 10 D6 (io), 11 VCC (power), 12 D2 (io), 13 D7 (io), 14 D0 (io), 15 D1 (io), 16 ~{{INT}} (in), 17 ~{{NMI}} (in), 18 ~{{HALT}} (out), 19 ~{{MREQ}} (out), 20 ~{{IORQ}} (out), 21 ~{{RD}} (out), 22 ~{{WR}} (out), 23 ~{{BUSACK}} (out), 24 ~{{WAIT}} (in), 25 ~{{BUSRQ}} (in), 26 ~{{RESET}} (in), 27 ~{{M1}} (out), 28 ~{{RFSH}} (out), 29 GND (power), 30 A0 (out), 31 A1 (out), 32 A2 (out), 33 A3 (out), 34 A4 (out), 35 A5 (out), 36 A6 (out), 37 A7 (out), 38 A8 (out), 39 A9 (out), 40 A10 (out)